# Altium schematic symbol library Interface.SchLib: 4 symbols
Pins are listed as number, name and electrical type; pins without a type are passive.

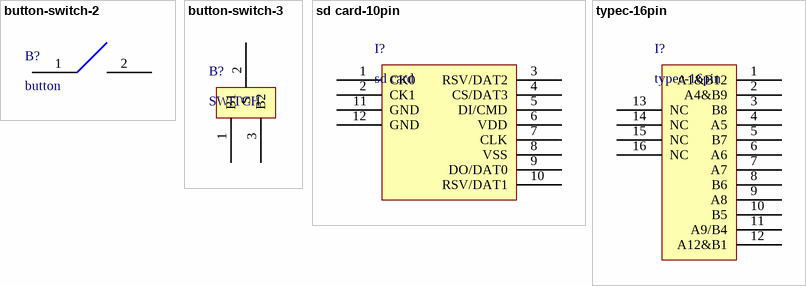
[diagram p0: symbols button-switch-2 to typec-16pin]

## button-switch-2
designator B?, comment button
pins: 1, 2

## button-switch-3
designator B?, comment SWITCH
pins: 1 B1, 2 S, 3 B2

## sd card-10pin
designator I?, comment sd card
sd card-10pin
pins: 1 CK0, 2 CK1, 3 RSV/DAT2, 4 CS/DAT3, 5 DI/CMD, 6 VDD, 7 CLK, 8 VSS, 9 DO/DAT0, 10 RSV/DAT1, 11 GND, 12 GND

## typec-16pin
designator I?
pins: 1 A1&B12, 2 A4&B9, 3 B8, 4 A5, 5 B7, 6 A6, 7 A7, 8 B6, 9 A8, 10 B5, 11 A9/B4, 12 A12&B1, 13 NC, 14 NC, 15 NC, 16 NC